# Altium schematic symbol library EnerfiLib.SchLib: 19 symbols
Pins are listed as number, name and electrical type; pins without a type are passive.

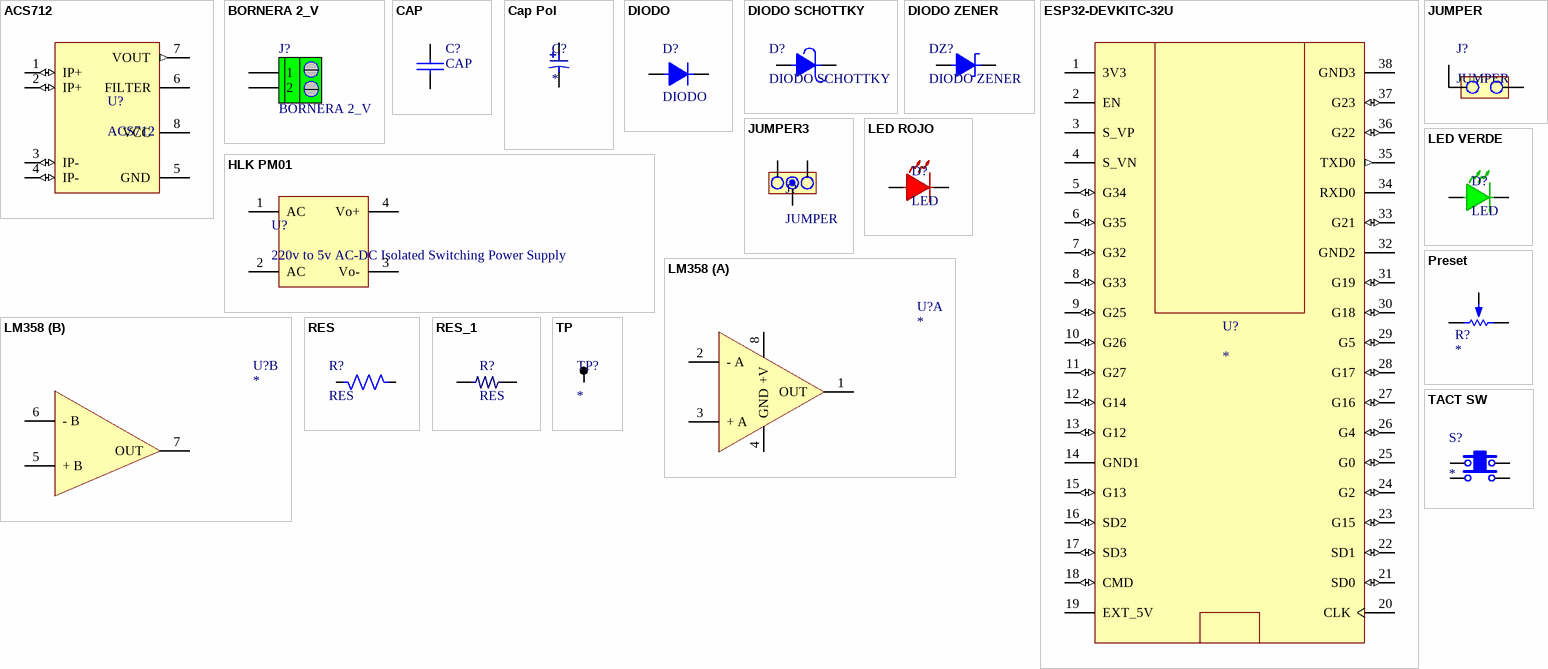
[diagram p0: symbols ACS712 to TP]

## ACS712
designator U?
Hall Effect-Based Linear Current Sensor; Autor: Nicolas Mahnic; Datasheet: https://www.sparkfun.com/datasheets/BreakoutBoards/0712.pdf; Application Note: https://www.allegromicro.com/en/insights-and-innovations/technical-documents/hall-effect-sensor-ic-publications/current-sensor-ics-in-current-divider-configurations
footprint SOP127P600X175-8N (SOP, 8-Leads, Body 4,95x3,95mm, Pitch 1,27mm, IPC Medium Density)
pins: 1 IP+ (io), 2 IP+ (io), 3 IP- (io), 4 IP- (io), 5 GND (power), 6 FILTER, 7 VOUT (out), 8 VCC (power)

## BORNERA 2_V
designator J?
footprint BORNERA2 (Bornera con Tornillos 5mm separación)
pins: 1, 2

## CAP
designator C?
footprint C0603-0.80 (Capacitor Chip 0603 Height 0.80mm)
footprint C0805-0.80 (Capacitor Chip 0805 Height 0.80)
footprint C0805-1.25 (Capacitor Chip 0805 Height 1.25mm)
pins: 1, 2

## Cap Pol
designator C?
Capacitor, polarized, generic
footprint C Elec TH V 4x7-2.5 (C Elec TH 4x7 2.5mm pitch)
pins: 1, 2

## DIODO
designator D?
footprint DO35
pins: 1, 2

## DIODO SCHOTTKY
designator D?
footprint DO35
pins: 1, 2

## DIODO ZENER
designator DZ?
footprint DO35
pins: 1, 2

## ESP32-DEVKITC-32U
designator U?
- Transceiver; 802.11 b/g/n _Wi-Fi, WiFi, WLAN_, BluetoothÂ® Smart 4.x Low Energy _BLE_ For Use With ESP-WROOM-32; MP: ESP32-DEVKITC-32U; MF: Espressif Systems; Autor: Nicolas Mahnic; Package: None
footprint MODULE_ESP32_DEVKIT_V1
pins: 1 3V3 (power), 2 EN (hiz), 3 S_VP (hiz), 4 S_VN (hiz), 5 G34 (io), 6 G35 (io), 7 G32 (io), 8 G33 (io), 9 G25 (io), 10 G26 (io), 11 G27 (io), 12 G14 (io), 13 G12 (io), 14 GND1 (power), 15 G13 (io), 16 SD2 (io), 17 SD3 (io), 18 CMD (io), 19 EXT_5V (power), 20 CLK (hiz), 21 SD0 (io), 22 SD1 (io), 23 G15 (io), 24 G2 (io), 25 G0 (io), 26 G4 (io), 27 G16 (io), 28 G17 (io), 29 G5 (io), 30 G18 (io), 31 G19 (io), 32 GND2 (power), 33 G21 (io), 34 RXD0 (hiz), 35 TXD0 (out), 36 G22 (io), 37 G23 (io), 38 GND3 (power)

## HLK PM01
designator U?, comment 220v to 5v AC-DC Isolated Switching Power Supply
HLK PM01 220v to 5v AC-DC Isolated Switching Power Supply; Autor: Nicolas Mahnic
footprint HLK PM01 (HLK PM01 220v to 5v AC-DC Isolated Switching Power Supply)
pins: 1 AC (power), 2 AC (power), 3 Vo- (power), 4 Vo+ (power)

## JUMPER
designator J?
footprint SIP2
pins: 1, 2

## JUMPER3
designator J?, comment JUMPER
footprint SIP3
pins: 1, 2, 3

## LED ROJO
designator D?, comment LED
pins: 1, 2

## LED VERDE
designator D?, comment LED
pins: 1, 2

## LM358
designator U?
footprint SOP127P600X175-8N (SOP, 8-Leads, Body 4,95x3,95mm, Pitch 1,27mm, IPC Medium Density)
part A pins: 1 OUT  , 2 - A, 3 + A, 4 GND, 8 +V
part B pins: 5 + B, 6 - B, 7 OUT  

## Preset
designator R?
footprint PRESET V
footprint PRESET H_1
footprint PRESET H_2
pins: 1, 2, 3

## RES
designator R?
footprint R0805-0.45 (Resistor Chip 0805 Height 0.45mm)
footprint R1206-0.55 (Resistor Chip 1206 Height 0.55mm)
footprint R0603-0.45 (Resistor Chip 0603 Height 0.45mm)
pins: 1, 2

## RES_1
designator R?, comment RES
footprint R0805-0.45 (Resistor Chip 0805 Height 0.45mm)
footprint R1206-0.55 (Resistor Chip 1206 Height 0.55mm)
footprint R0603-0.45 (Resistor Chip 0603 Height 0.45mm)
pins: 1, 2

## TACT SW
designator S?
footprint TACTSWITCH
pins: 1, 2, 3, 4

## TP
designator TP?
footprint TPTH
footprint TPSMD
pins: 1